# Altium schematic symbol library SCH - POWER - SWITCHMODE - TI LM656x5.SchLib: 1 symbol
Pins are listed as number, name and electrical type; pins without a type are passive.

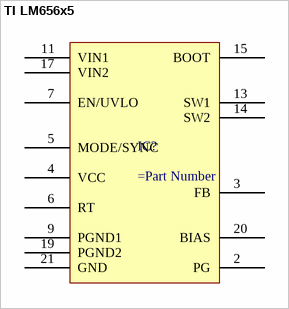
[diagram p0: symbol TI LM656x5]

## TI LM656x5
designator IC?
pins: 2 PG, 3 FB, 4 VCC, 5 MODE/SYNC, 6 RT, 7 EN/UVLO, 9 PGND1, 11 VIN1, 13 SW1, 14 SW2, 15 BOOT, 17 VIN2, 19 PGND2, 20 BIAS, 21 GND